# EAGLE library part 1X6_HEADER (library CONNECTORs)
A 1 row, 6 column, 6 pin 0.1" header.
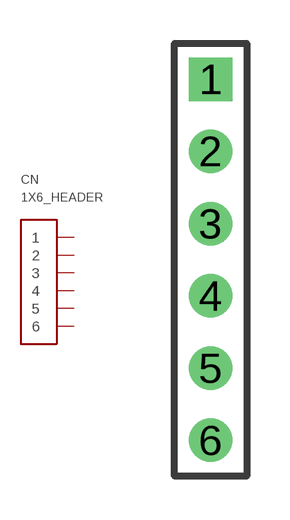
[diagram p1: symbol with the pads of 6PIN_HEADER; footprint 6PIN_HEADER]

Designator prefix CN

## 1X6_HEADER  [6PIN_HEADER]
1  1
2  2
3  3
4  4
5  5
6  6

## Footprint 6PIN_HEADER (pad centres in mm)
drill 1 pad 1.5 square: 1 0,6.25
drill 1 pad 1.5: 2 0,3.75; 3 0,1.25; 4 0,-1.25; 5 0,-3.75; 6 0,-6.25